# Altium schematic symbol library 1.3   - 电源类芯片.SchLib: 61 symbols
Pins are listed as number, name and electrical type; pins without a type are passive.

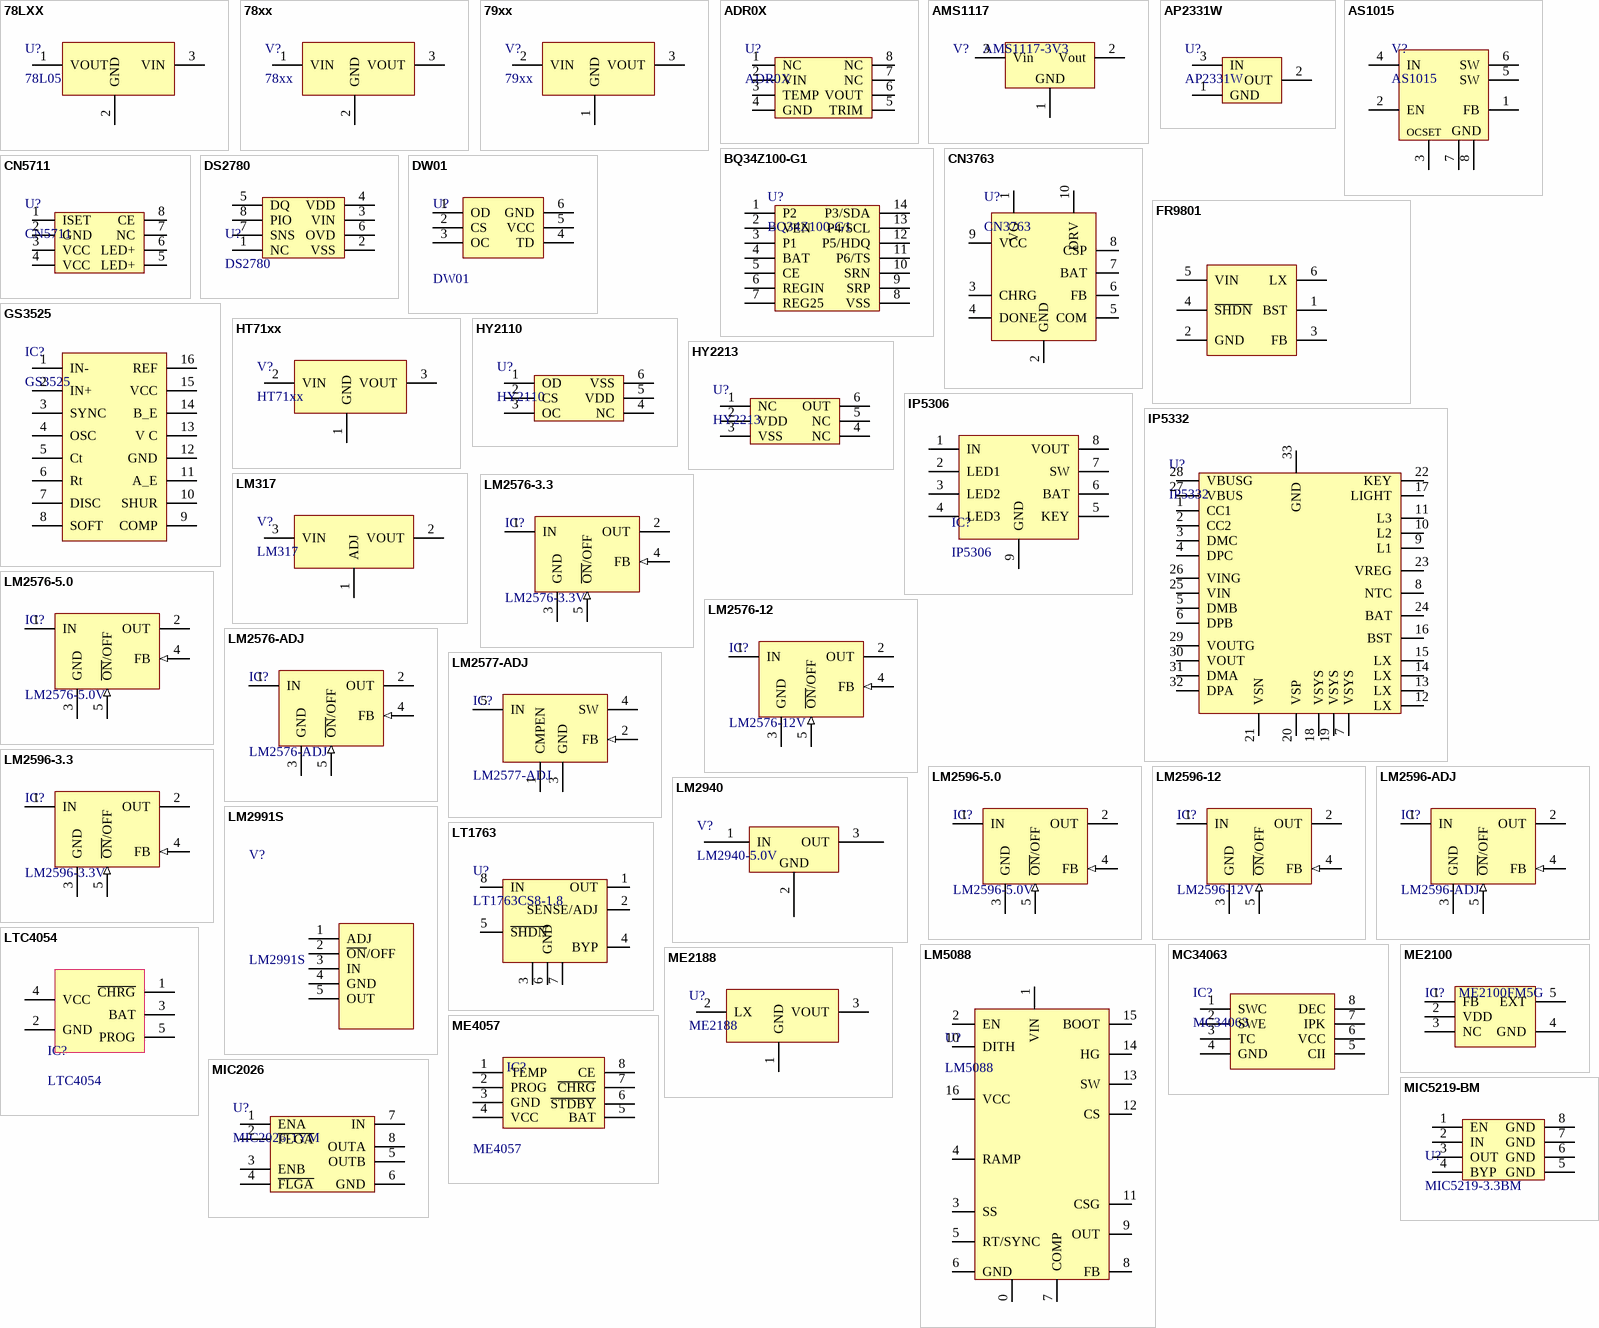
[diagram p0: symbols 78LXX to MIC5219-BM]

## 78LXX
designator U?, comment 78L05
线性稳压器
footprint SOT89_L (4.6x4.3x1.6mm(长宽高))
footprint SOT89_M (4.6x4.3x1.6mm(长宽高))
footprint SOT89_N (4.6x4.3x1.6mm(长宽高))
pins: 1 VOUT, 2 GND, 3 VIN

## 78xx
designator V?
线性稳压芯片; 版权归属: 源创客; BOM名称: 线性稳压芯片; 学习资源: www.ooocke.com
footprint TO252 (252晶体管)
footprint TO220A (220，3脚晶体管)
footprint TO220B (220，3脚晶体管)
footprint TO220C (220，3脚晶体管)
footprint TO263-3B (263，3脚晶体管)
pins: 1 VIN, 2 GND, 3 VOUT

## 79xx
designator V?
线性稳压芯片; 版权归属: 源创客; BOM名称: 线性稳压芯片; 学习资源: www.ooocke.com
footprint TO252 (252晶体管)
footprint TO220A (220，3脚晶体管)
footprint TO220B (220，3脚晶体管)
footprint TO220C (220，3脚晶体管)
pins: 1 GND, 2 VIN, 3 VOUT

## ADR0X
designator U?
超小型精密基准电源
footprint SOP8_L (5*6*1.8mm（长宽高）)
footprint SOP8_M (5*6*1.8mm（长宽高）)
footprint SOP8_N (5*6*1.8mm（长宽高）)
pins: 1 NC, 2 VIN, 3 TEMP, 4 GND, 5 TRIM, 6 VOUT, 7 NC, 8 NC

## AMS1117
designator V?, comment AMS1117-3V3
三端稳压芯片; BOM名称: 稳压芯片; 版权归属: 源创客; 学习资源: www.ooocke.com
footprint SOT223_L (6.4x7x1.6mm(长宽高))
footprint SOT223_M (6.4x7x1.6mm(长宽高))
footprint SOT223_N (6.4x7x1.6mm(长宽高))
footprint SOT89_L (4.6x4.3x1.6mm(长宽高))
footprint SOT89_N (4.6x4.3x1.6mm(长宽高))
footprint SOT89_M (4.6x4.3x1.6mm(长宽高))
pins: 1 GND, 2 Vout, 3 Vin

## AP2331W
designator U?
单通道集成限流IC
footprint SOT23-3N (3x1.3x1mm(长宽高))
pins: 1 GND, 2 OUT, 3 IN

## AS1015
designator V?
可调升压芯片; 版权归属: 源创客; BOM名称: 可调升压芯片; 学习资源: www.ooocke.com
footprint SOP8_N (5*6*1.8mm（长宽高）)
footprint SOP8_L (5*6*1.8mm（长宽高）)
footprint SOP8_M (5*6*1.8mm（长宽高）)
pins: 1 FB (power), 2 EN (power), 3 OCSET (power), 4 IN (power), 5 SW (power), 6 SW (power), 7 GND (power), 8 GND (power)

## BQ34Z100-G1
designator U?
Impedance Track™ 技术的宽量程电量监测计
footprint TSSOP14_M (5*6.4*1mm（长宽高）)
pins: 1 P2, 2 VEN, 3 P1, 4 BAT, 5 CE, 6 REGIN, 7 REG25, 8 VSS, 9 SRP, 10 SRN, 11 P6/TS, 12 P5/HDQ, 13 P4/SCL, 14 P3/SDA

## CN3763
designator U?
4A三节锂电池充电管理集成电路
footprint SSOP10_L
footprint SSOP10_M
footprint SSOP10_N
pins: 1 VG, 2 GND, 3 CHRG, 4 DONE, 5 COM, 6 FB, 7 BAT, 8 CSP, 9 VCC, 10 DRV

## CN5711
designator U?
电流调制集成IC LED恒流驱动
footprint SOP8_L (5*6*1.8mm（长宽高）)
footprint SOP8_M (5*6*1.8mm（长宽高）)
footprint SOP8_N (5*6*1.8mm（长宽高）)
pins: 1 ISET, 2 GND, 3 VCC, 4 VCC, 5 LED+, 6 LED+, 7 NC, 8 CE

## DS2780
designator U?
独立式电量计IC
footprint SSOP8_M (3*6.4*1.2mm（长宽高）)
pins: 1 NC, 2 VSS, 3 VIN, 4 VDD, 5 DQ, 6 OVD, 7 SNS, 8 PIO

## DW01
designator U?
锂电池过流保护IC; BOM名称: 过流保护IC; 版权归属: 源创客; 学习资源: www.ooocke.com
footprint SOT23-6L (3x1.6x1.1mm(长宽高))
footprint SOT23-6N (3x1.6x1.1mm(长宽高))
footprint SOT23-6M (3x1.6x1.1mm(长宽高))
pins: 1 OD, 2 CS, 3 OC, 4 TD, 5 VCC, 6 GND

## FR9801
designator U?, comment FR9801S6CTR
21V, 2A, 600KHz Synchronous Step-Down / DC/DC Converter; Revised By: Z_xiao
footprint SOT23-6L (3x1.6x1.1mm(长宽高))
footprint SOT23-6M (3x1.6x1.1mm(长宽高))
footprint SOT23-6N (3x1.6x1.1mm(长宽高))
pins: 1 BST, 2 GND, 3 FB, 4 ~{SHDN}, 5 VIN, 6 LX

## GS3525
designator IC?
开关电源管理IC; BOM名称: 电源管理IC; 版权归属: 源创客; 学习资源: www.ooocke.com
footprint DIP16-300 (19.3*7.6*3.8(长宽高）)
footprint SOP16_L (10.3*6.2*1.8mm（长宽高）)
footprint SOP16_N (10.3*6.2*1.8mm（长宽高）)
footprint SOP16_M (10.3*6.2*1.8mm（长宽高）)
pins: 1 IN-, 2 IN+, 3 SYNC, 4 OSC, 5 Ct, 6 Rt, 7 DISC, 8 SOFT, 9 COMP, 10 SHUR, 11 A_E, 12 GND, 13 V C, 14 B_E, 15 VCC, 16 REF

## HT71xx
designator V?
LDO线性稳压芯片; 版权归属: 源创客; BOM名称: LDO线性稳压芯片; 学习资源: www.ooocke.com
footprint SOT89_L (4.6x4.3x1.6mm(长宽高))
footprint SOT89_N (4.6x4.3x1.6mm(长宽高))
footprint SOT89_M (4.6x4.3x1.6mm(长宽高))
footprint TO92A (92晶体管)
footprint TO92B (92晶体管)
pins: 1 GND, 2 VIN, 3 VOUT

## HY2110
designator U?
1节锂离子/锂聚合物电池保护 IC
footprint SOT23-6L (3x1.6x1.1mm(长宽高))
footprint SOT23-6N (3x1.6x1.1mm(长宽高))
pins: 1 OD, 2 CS, 3 OC, 4 NC, 5 VDD, 6 VSS

## HY2213
designator U?
1 节锂离子/锂聚合物电池充电平衡 IC
footprint SOT23-6L (3x1.6x1.1mm(长宽高))
footprint SOT23-6N (3x1.6x1.1mm(长宽高))
pins: 1 NC, 2 VDD, 3 VSS, 4 NC, 5 NC, 6 OUT

## IP5306
designator IC?
锂电池充电管理; 版权归属: 源创客; BOM名称: 锂电池充电管理; 学习资源: www.ooocke.com
footprint ESOP8_L (5*6*1.8mm（长宽高）)
pins: 1 IN, 2 LED1, 3 LED2, 4 LED3, 5 KEY, 6 BAT, 7 SW, 8 VOUT, 9 GND

## IP5332
designator U?
支持双向 / PD3.0 快充等多种协议 的 移动电源 SOC
footprint QFN32 5x5_L (32脚，长x宽x高：5x5x0.95mm，脚距：0.5mm)
footprint QFN32 5x5_M (32脚，长x宽x高：5x5x0.95mm，脚距：0.5mm)
footprint QFN32 5x5_M (32脚，长x宽x高：5x5x0.95mm，脚距：0.5mm)
pins: 1 CC1, 2 CC2, 3 DMC, 4 DPC, 5 DMB, 6 DPB, 7 VSYS, 8 NTC, 9 L1, 10 L2, 11 L3, 12 LX, 13 LX, 14 LX, 15 LX, 16 BST, 17 LIGHT, 18 VSYS, 19 VSYS, 20 VSP, 21 VSN, 22 KEY, 23 VREG, 24 BAT, 25 VIN, 26 VING, 27 VBUS, 28 VBUSG, 29 VOUTG, 30 VOUT, 31 DMA, 32 DPA, 33 GND

## LM317
designator V?
可调线性稳压芯片; 版权归属: 源创客; BOM名称: 可调线性稳压芯片; 学习资源: www.ooocke.com
footprint TO252 (252晶体管)
footprint TO220A (220，3脚晶体管)
footprint TO220B (220，3脚晶体管)
pins: 1 ADJ, 2 VOUT, 3 VIN

## LM2576-3.3
designator IC?, comment LM2576-3.3V
DC降压芯片; 版权归属: 源创客; BOM名称: DC降压芯片; 学习资源: www.ooocke.com
footprint TO220-5A (220，5脚晶体管)
footprint TO220-5B (220，5脚晶体管)
footprint TO220-5C (220，5脚晶体管)
footprint TO263-5A (263，5脚晶体管)
footprint TO263-5B (263，5脚晶体管)
pins: 1 IN (power), 2 OUT (power), 3 GND (power), 4 FB (in), 5 ~{ON}/OFF (in)

## LM2576-5.0
designator IC?, comment LM2576-5.0V
DC降压芯片; 版权归属: 源创客; BOM名称: DC降压芯片; 学习资源: www.ooocke.com
footprint TO220-5A (220，5脚晶体管)
footprint TO220-5B (220，5脚晶体管)
footprint TO220-5C (220，5脚晶体管)
footprint TO263-5A (263，5脚晶体管)
footprint TO263-5B (263，5脚晶体管)
pins: 1 IN (power), 2 OUT (power), 3 GND (power), 4 FB (in), 5 ~{ON}/OFF (in)

## LM2576-12
designator IC?, comment LM2576-12V
DC降压芯片; 版权归属: 源创客; BOM名称: DC降压芯片; 学习资源: www.ooocke.com
footprint TO220-5A (220，5脚晶体管)
footprint TO220-5B (220，5脚晶体管)
footprint TO220-5C (220，5脚晶体管)
footprint TO263-5A (263，5脚晶体管)
footprint TO263-5B (263，5脚晶体管)
pins: 1 IN (power), 2 OUT (power), 3 GND (power), 4 FB (in), 5 ~{ON}/OFF (in)

## LM2576-ADJ
designator IC?
DC降压芯片; 版权归属: 源创客; BOM名称: DC降压芯片; 学习资源: www.ooocke.com
footprint TO220-5A (220，5脚晶体管)
footprint TO220-5B (220，5脚晶体管)
footprint TO220-5C (220，5脚晶体管)
footprint TO263-5A (263，5脚晶体管)
footprint TO263-5B (263，5脚晶体管)
pins: 1 IN (power), 2 OUT (power), 3 GND (power), 4 FB (in), 5 ~{ON}/OFF (in)

## LM2577-ADJ
designator IC?
DC升压芯片; 版权归属: 源创客; BOM名称: DC升压芯片; 学习资源: www.ooocke.com
footprint TO220-5A (220，5脚晶体管)
footprint TO220-5B (220，5脚晶体管)
footprint TO220-5C (220，5脚晶体管)
footprint TO263-5A (263，5脚晶体管)
footprint TO263-5B (263，5脚晶体管)
pins: 1 CMPEN, 2 FB (in), 3 GND (power), 4 SW (power), 5 IN (power)

## LM2596-3.3
designator IC?, comment LM2596-3.3V
DC降压芯片; BOM名称: DC稳压芯片; 版权归属: 源创客; 学习资源: www.ooocke.com
footprint TO220-5A (220，5脚晶体管)
footprint TO220-5B (220，5脚晶体管)
footprint TO220-5C (220，5脚晶体管)
footprint TO263-5A (263，5脚晶体管)
footprint TO263-5B (263，5脚晶体管)
pins: 1 IN (power), 2 OUT (power), 3 GND (power), 4 FB (in), 5 ~{ON}/OFF (in)

## LM2596-5.0
designator IC?, comment LM2596-5.0V
DC降压芯片; BOM名称: DC稳压芯片; 版权归属: 源创客; 学习资源: www.ooocke.com
footprint TO220-5A (220，5脚晶体管)
footprint TO220-5B (220，5脚晶体管)
footprint TO220-5C (220，5脚晶体管)
footprint TO263-5A (263，5脚晶体管)
footprint TO263-5B (263，5脚晶体管)
pins: 1 IN (power), 2 OUT (power), 3 GND (power), 4 FB (in), 5 ~{ON}/OFF (in)

## LM2596-12
designator IC?, comment LM2596-12V
DC降压芯片; BOM名称: DC稳压芯片; 版权归属: 源创客; 学习资源: www.ooocke.com
footprint TO220-5A (220，5脚晶体管)
footprint TO220-5B (220，5脚晶体管)
footprint TO220-5C (220，5脚晶体管)
footprint TO263-5A (263，5脚晶体管)
footprint TO263-5B (263，5脚晶体管)
pins: 1 IN (power), 2 OUT (power), 3 GND (power), 4 FB (in), 5 ~{ON}/OFF (in)

## LM2596-ADJ
designator IC?
DC降压芯片; BOM名称: DC稳压芯片; 版权归属: 源创客; 学习资源: www.ooocke.com
footprint TO220-5A (220，5脚晶体管)
footprint TO220-5B (220，5脚晶体管)
footprint TO220-5C (220，5脚晶体管)
footprint TO263-5A (263，5脚晶体管)
footprint TO263-5B (263，5脚晶体管)
pins: 1 IN (power), 2 OUT (power), 3 GND (power), 4 FB (in), 5 ~{ON}/OFF (in)

## LM2940
designator V?, comment LM2940-5.0V
5V稳压芯片; 版权归属: 源创客; BOM名称: 5V稳压芯片; 学习资源: www.ooocke.com
footprint TO220A (220，3脚晶体管)
footprint TO220B (220，3脚晶体管)
pins: 1 IN (power), 2 GND (power), 3 OUT (power)

## LM2991S
designator V?
可调稳压芯片; 版权归属: 源创客; BOM名称: 可调稳压芯片; 学习资源: www.ooocke.com
footprint TO220-5A (220，5脚晶体管)
footprint TO220-5B (220，5脚晶体管)
footprint TO220-5C (220，5脚晶体管)
footprint TO263-5A (263，5脚晶体管)
footprint TO263-5B (263，5脚晶体管)
pins: 1 ADJ, 2 ~{ON}/OFF, 3 IN, 4 GND, 5 OUT

## LM5088
designator U?
宽输入范围的非同步降压控制器
footprint TSSOP16_L - 0 (5*6.4*1mm（长宽高）)
footprint TSSOP16_M - 0 (5*6.4*1mm（长宽高）)
footprint TSSOP16_N - 0 (5*6.4*1mm（长宽高）)
pins: 0, 1 VIN, 2 EN, 3 SS, 4 RAMP, 5 RT/SYNC, 6 GND, 7 COMP, 8 FB, 9 OUT, 10 DITH, 11 CSG, 12 CS, 13 SW, 14 HG, 15 BOOT, 16 VCC

## LT1763
designator U?, comment LT1763CS8-1.8
500mA, Low Noise, LDO / Micropower Regulators
footprint SOP8_L (5*6*1.8mm（长宽高）)
footprint SOP8_M (5*6*1.8mm（长宽高）)
footprint SOP8_N (5*6*1.8mm（长宽高）)
pins: 1 OUT, 2 SENSE/ADJ, 3 GND, 4 BYP, 5 ~{SHDN}, 6 GND, 7 GND, 8 IN

## LTC4054
designator IC?
锂电池充电管理; 版权归属: 源创客; BOM名称: 锂电池充电管理; 学习资源: www.ooocke.com
footprint SOT23-5L (3x1.6x1.1mm(长宽高))
footprint SOT23-5M (3x1.6x1.1mm(长宽高))
footprint SOT23-5N (3x1.6x1.1mm(长宽高))
pins: 1 ~{CHRG}, 2 GND, 3 BAT, 4 VCC, 5 PROG

## MC34063
designator IC?
DC升降压芯片; 版权归属: 源创客; BOM名称: DC升降压芯片; 学习资源: www.ooocke.com
footprint SOP8_L (5*6*1.8mm（长宽高）)
footprint SOP8_N (5*6*1.8mm（长宽高）)
footprint SOP8_M (5*6*1.8mm（长宽高）)
footprint DIP8-300 (9.4*7.6*3.8(长宽高）)
pins: 1 SWC, 2 SWE, 3 TC, 4 GND, 5 CII, 6 VCC, 7 IPK, 8 DEC

## ME2100
designator IC?, comment ME2100FM5G
可调升压芯片; 版权归属: 源创客; BOM名称: 可调升压芯片; 学习资源: www.ooocke.com
footprint SOT23-5N (3x1.6x1.1mm(长宽高))
footprint SOT23-5L (3x1.6x1.1mm(长宽高))
footprint SOT23-5M (3x1.6x1.1mm(长宽高))
pins: 1 FB, 2 VDD, 3 NC, 4 GND, 5 EXT

## ME2188
designator U?
搞笑PFM同步升压DC-DC转换芯片
footprint SOT23-3L (3x1.3x1mm(长宽高))
pins: 1 GND, 2 LX, 3 VOUT

## ME4057
designator IC?
锂电池充电管理IC; BOM名称: 充电管理IC; 版权归属: 源创客; 学习资源: www.ooocke.com
footprint SOP8_N (5*6*1.8mm（长宽高）)
footprint SOP8_L (5*6*1.8mm（长宽高）)
footprint SOP8_M (5*6*1.8mm（长宽高）)
pins: 1 TEMP, 2 PROG, 3 GND, 4 VCC, 5 BAT, 6 ~{STDBY}, 7 ~{CHRG}, 8 CE

## MIC2026
designator U?, comment MIC2026-1YM
双通道配电开关
footprint SOP8_L (5*6*1.8mm（长宽高）)
pins: 1 ENA, 2 ~{FLGA}, 3 ENB, 4 ~{FLGA}, 5 OUTB, 6 GND, 7 IN, 8 OUTA

## MIC5219-BM
designator U?, comment MIC5219-3.3BM
低压差线性稳压器
footprint MSOP8_M (塑封体长3mm，宽3mm，脚距0.65)
pins: 1 EN, 2 IN, 3 OUT, 4 BYP, 5 GND, 6 GND, 7 GND, 8 GND

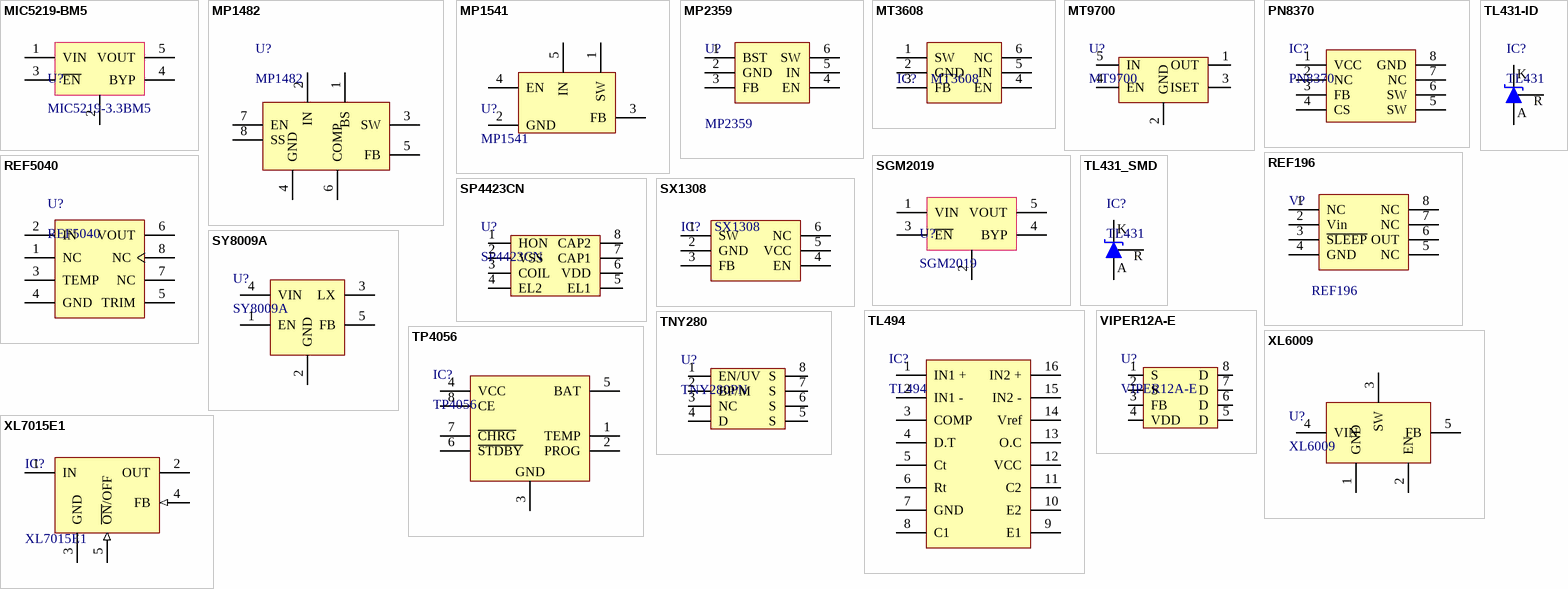
[diagram p1: symbols MIC5219-BM5 to XL7015E1]

## MIC5219-BM5
designator U?, comment MIC5219-3.3BM5
低压差线性稳压器
footprint SOT23-5L (3x1.6x1.1mm(长宽高))
pins: 1 VIN, 2, 3 ~{EN}, 4 BYP, 5 VOUT

## MP1482
designator U?
340KHz同步整流降压器
footprint ESOP8_M (5*6*1.8mm（长宽高）)
pins: 1 BS, 2 IN, 3 SW, 4 GND, 5 FB, 6 COMP, 7 EN, 8 SS

## MP1541
designator U?
DC升压IC
footprint SOT23-5
pins: 1 SW, 2 GND, 3 FB, 4 EN, 5 IN

## MP2359
designator U?
DC降压芯片; 版权归属: 源创客; BOM名称: DC降压芯片; 学习资源: www.ooocke.com
footprint SOT23-6L (3x1.6x1.1mm(长宽高))
footprint SOT23-6N (3x1.6x1.1mm(长宽高))
footprint SOT23-6M (3x1.6x1.1mm(长宽高))
pins: 1 BST, 2 GND, 3 FB, 4 EN, 5 IN, 6 SW

## MT3608
designator IC?
可调升压芯片; 版权归属: 源创客; BOM名称: 可调升压芯片; 学习资源: www.ooocke.com
footprint SOT23-6N (3x1.6x1.1mm(长宽高))
footprint SOT23-6L (3x1.6x1.1mm(长宽高))
footprint SOT23-6M (3x1.6x1.1mm(长宽高))
pins: 1 SW, 2 GND, 3 FB, 4 EN, 5 IN, 6 NC

## MT9700
designator U?
80mΩ,Adjustable Fast Response / Current-Limited Power-Distribution Switch
footprint SOT23-5L (3x1.6x1.1mm(长宽高))
footprint SOT23-5M (3x1.6x1.1mm(长宽高))
footprint SOT23-5N (3x1.6x1.1mm(长宽高))
pins: 1 OUT, 2 GND, 3 ISET, 4 EN, 5 IN

## PN8370
designator IC?
电源管理IC; 版权归属: 源创客; BOM名称: 电源管理IC; 学习资源: www.ooocke.com
footprint SOP8_N (5*6*1.8mm（长宽高）)
footprint SOP8_M (5*6*1.8mm（长宽高）)
footprint SOP8_L (5*6*1.8mm（长宽高）)
pins: 1 VCC, 2 NC, 3 FB, 4 CS, 5 SW, 6 SW, 7 NC, 8 GND

## REF196
designator V?
3V3基准电压源; 版权归属: 源创客; BOM名称: 3V3基准电压; 学习资源: www.ooocke.com
footprint SOP8_L (5*6*1.8mm（长宽高）)
footprint SOP8_N (5*6*1.8mm（长宽高）)
footprint SOP8_M (5*6*1.8mm（长宽高）)
pins: 1 NC, 2 Vin, 3 ~{SLEEP}, 4 GND, 5 NC, 6 OUT, 7 NC, 8 NC

## REF5040
designator U?
高精度电压基准; 版权归属: 源创客; BOM名称: 高精度电压基准; 学习资源: www.ooocke.com
footprint SOP8_L (5*6*1.8mm（长宽高）)
footprint SOP8_M (5*6*1.8mm（长宽高）)
footprint SOP8_N (5*6*1.8mm（长宽高）)
footprint DIP8-300 (9.4*7.6*3.8(长宽高）)
footprint DIP8-300_MH (带底座 9.4*7.6*3.8(长宽高）)
pins: 1 NC, 2 IN, 3 TEMP, 4 GND, 5 TRIM, 6 VOUT, 7 NC, 8 NC

## SGM2019
designator U?
低压差线性稳压器
footprint SOT23-5L (3x1.6x1.1mm(长宽高))
pins: 1 VIN, 2, 3 ~{EN}, 4 BYP, 5 VOUT

## SP4423CN
designator U?
Electroluminescent Lamp Driver Low Power Applications
footprint SOP8_L (5*6*1.8mm（长宽高）)
footprint SOP8_M (5*6*1.8mm（长宽高）)
footprint SOP8_N (5*6*1.8mm（长宽高）)
pins: 1 HON, 2 VSS, 3 COIL, 4 EL2, 5 EL1, 6 VDD, 7 CAP1, 8 CAP2

## SX1308
designator IC?
可调升压芯片; 版权归属: 源创客; BOM名称: 可调升压芯片; 学习资源: www.ooocke.com
footprint SOT23-6N (3x1.6x1.1mm(长宽高))
footprint SOT23-6L (3x1.6x1.1mm(长宽高))
footprint SOT23-6M (3x1.6x1.1mm(长宽高))
pins: 1 SW, 2 GND, 3 FB, 4 EN, 5 VCC, 6 NC

## SY8009A
designator U?
footprint SOT23-5L (3x1.6x1.1mm(长宽高))
pins: 1 EN, 2 GND, 3 LX, 4 VIN, 5 FB

## TL431-ID
designator IC?, comment TL431
可调基准稳压芯片; 版权归属: 源创客; BOM名称: 可调基准稳压芯片; 学习资源: www.ooocke.com
footprint TO92A (92晶体管)
footprint TO92B (92晶体管)
pins: 1 R, 2 A, 3 K

## TL431_SMD
designator IC?, comment TL431
可调基准稳压芯片; 版权归属: 源创客; BOM名称: 可调基准稳压芯片; 学习资源: www.ooocke.com
footprint SOT23-3N (3x1.3x1mm(长宽高))
footprint SOT23-3L (3x1.3x1mm(长宽高))
footprint SOT23-3M (3x1.3x1mm(长宽高))
pins: 1 R, 2 K, 3 A

## TL494
designator IC?
电源管理IC; 版权归属: 源创客; BOM名称: 电源管理IC; 学习资源: www.ooocke.com
footprint DIP16-300 (19.3*7.6*3.8(长宽高）)
footprint SOP16_L (10.3*6.2*1.8mm（长宽高）)
footprint SOP16_N (10.3*6.2*1.8mm（长宽高）)
footprint SOP16_M (10.3*6.2*1.8mm（长宽高）)
pins: 1 IN1 +, 2 IN1 -, 3 COMP, 4 D.T, 5 Ct, 6 Rt, 7 GND, 8 C1, 9 E1, 10 E2, 11 C2, 12 VCC, 13 O.C, 14 Vref, 15 IN2 -, 16 IN2 +

## TNY280
designator U?, comment TNY280PN
集成00V的功率MOSFET、振荡器、高压开关电流源、电流限流(用户可选)及热关断电路
footprint DIP8-300 (9.4*7.6*3.8(长宽高）)
pins: 1 EN/UV, 2 BP/M, 3 NC, 4 D, 5 S, 6 S, 7 S, 8 S

## TP4056
designator IC?
锂电池充电管理; 版权归属: 源创客; BOM名称: 锂电池充电管理; 学习资源: www.ooocke.com
footprint SOP8_N (5*6*1.8mm（长宽高）)
footprint SOP8_L (5*6*1.8mm（长宽高）)
footprint SOP8_M (5*6*1.8mm（长宽高）)
pins: 1 TEMP, 2 PROG, 3 GND, 4 VCC, 5 BAT, 6 ~{STDBY}, 7 ~{CHRG}, 8 CE

## VIPER12A-E
designator U?
Low power OFF-line SMPS primary switcher
footprint DIP8-300 (9.4*7.6*3.8(长宽高）)
pins: 1 S, 2 S, 3 FB, 4 VDD, 5 D, 6 D, 7 D, 8 D

## XL6009
designator U?
400KHz 60V 4A Switching Current Boost / Buck-Boost / Inverting DC/DC Converter
footprint TO263-5A (263，5脚晶体管)
pins: 1 GND, 2 EN, 3 SW, 4 VIN, 5 FB

## XL7015E1
designator IC?
DC降压芯片; 版权归属: 源创客; BOM名称: DC降压芯片; 学习资源: www.ooocke.com
footprint TO252-5
pins: 1 IN (power), 2 OUT (power), 3 GND (power), 4 FB (in), 5 ~{ON}/OFF (in)